# Altium footprint library QFP_Rect_100P_Side_M.PcbLib: 3 footprints
Each footprint in its own frame and in the unit in brackets; x right, y up, seen from the top. Pads: shape width x height; smd on the part's side, far side on the other; paste and mask are expansions set on the pad; w line width, h text height; cw(c..) or ccw(c..) is an arc to the next point about the centre after c.
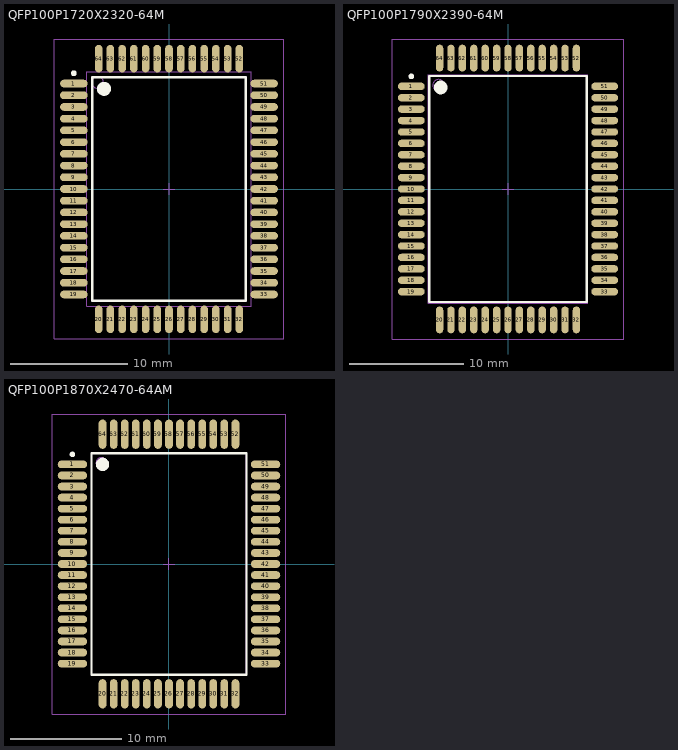
[diagram p0: the footprints below, top view; thin cyan lines are the x and y axes]

## QFP100P1720X2320-64M [mm]
pads (64):
  oval 2.35x0.65 smd: 1(-8.125,9) 2(-8.125,8) 3(-8.125,7) 4(-8.125,6) 5(-8.125,5) 6(-8.125,4) 7(-8.125,3) 8(-8.125,2) 9(-8.125,1) 10(-8.125,0) 11(-8.125,-1) 12(-8.125,-2) 13(-8.125,-3) 14(-8.125,-4) 15(-8.125,-5) 16(-8.125,-6) 17(-8.125,-7) 18(-8.125,-8) 19(-8.125,-9) 33(8.125,-9) 34(8.125,-8) 35(8.125,-7) 36(8.125,-6) 37(8.125,-5) 38(8.125,-4) 39(8.125,-3) 40(8.125,-2) 41(8.125,-1) 42(8.125,0) 43(8.125,1) 44(8.125,2) 45(8.125,3) 46(8.125,4) 47(8.125,5) 48(8.125,6) 49(8.125,7) 50(8.125,8) 51(8.125,9)
  oval 0.65x2.35 smd: 20(-6,-11.125) 21(-5,-11.125) 22(-4,-11.125) 23(-3,-11.125) 24(-2,-11.125) 25(-1,-11.125) 26(0,-11.125) 27(1,-11.125) 28(2,-11.125) 29(3,-11.125) 30(4,-11.125) 31(5,-11.125) 32(6,-11.125) 52(6,11.125) 53(5,11.125) 54(4,11.125) 55(3,11.125) 56(2,11.125) 57(1,11.125) 58(0,11.125) 59(-1,11.125) 60(-2,11.125) 61(-3,11.125) 62(-4,11.125) 63(-5,11.125) 64(-6,11.125)
Top Overlay:
  circle w0.6: c-5.55,8.55 r0.3
  circle w0.25: c-8.125,9.875 r0.125
  lines w0.2: -6.55,-9.55 6.55,-9.55 6.55,9.55 -6.55,9.55 -6.55,-9.55
Mechanical 13:
  circle w0.1: c-6.1,9.1 r0.5
  lines w0.1: -7,-10 7,-10 7,10 -7,10 -7,-10
Mechanical 15:
  lines w0.1: -0.5,0 0.5,0 ; 0,-0.5 0,0.5 ; -9.8,-12.8 9.8,-12.8 9.8,12.8 -9.8,12.8 -9.8,-12.8
3D body: height 0, standoff 0, extent -7,-10 7,10

## QFP100P1790X2390-64M [mm]
pads (64):
  oval 2.35x0.65 smd: 1(-8.475,9) 2(-8.475,8) 3(-8.475,7) 4(-8.475,6) 5(-8.475,5) 6(-8.475,4) 7(-8.475,3) 8(-8.475,2) 9(-8.475,1) 10(-8.475,0) 11(-8.475,-1) 12(-8.475,-2) 13(-8.475,-3) 14(-8.475,-4) 15(-8.475,-5) 16(-8.475,-6) 17(-8.475,-7) 18(-8.475,-8) 19(-8.475,-9) 33(8.475,-9) 34(8.475,-8) 35(8.475,-7) 36(8.475,-6) 37(8.475,-5) 38(8.475,-4) 39(8.475,-3) 40(8.475,-2) 41(8.475,-1) 42(8.475,0) 43(8.475,1) 44(8.475,2) 45(8.475,3) 46(8.475,4) 47(8.475,5) 48(8.475,6) 49(8.475,7) 50(8.475,8) 51(8.475,9)
  oval 0.65x2.35 smd: 20(-6,-11.475) 21(-5,-11.475) 22(-4,-11.475) 23(-3,-11.475) 24(-2,-11.475) 25(-1,-11.475) 26(0,-11.475) 27(1,-11.475) 28(2,-11.475) 29(3,-11.475) 30(4,-11.475) 31(5,-11.475) 32(6,-11.475) 52(6,11.475) 53(5,11.475) 54(4,11.475) 55(3,11.475) 56(2,11.475) 57(1,11.475) 58(0,11.475) 59(-1,11.475) 60(-2,11.475) 61(-3,11.475) 62(-4,11.475) 63(-5,11.475) 64(-6,11.475)
Top Overlay:
  circle w0.6: c-5.9,8.9 r0.3
  circle w0.25: c-8.475,9.875 r0.125
  lines w0.2: -6.9,-9.9 6.9,-9.9 6.9,9.9 -6.9,9.9 -6.9,-9.9
Mechanical 13:
  circle w0.1: c-6.1,9.1 r0.5
  lines w0.1: -7,-10 7,-10 7,10 -7,10 -7,-10
Mechanical 15:
  lines w0.1: -0.5,0 0.5,0 ; 0,-0.5 0,0.5 ; -10.15,-13.15 10.15,-13.15 10.15,13.15 -10.15,13.15 -10.15,-13.15
3D body: height 0, standoff 0, extent -7,-10 7,10

## QFP100P1870X2470-64AM [mm] "QFP, 64-Leads, Body 20x14mm, Pitch 1mm, IPC Low Density"
height 2.3
pads (64):
  oval 2.65x0.7 smd: 1(-8.725,9) 2(-8.725,8) 3(-8.725,7) 4(-8.725,6) 5(-8.725,5) 6(-8.725,4) 7(-8.725,3) 8(-8.725,2) 9(-8.725,1) 10(-8.725,0) 11(-8.725,-1) 12(-8.725,-2) 13(-8.725,-3) 14(-8.725,-4) 15(-8.725,-5) 16(-8.725,-6) 17(-8.725,-7) 18(-8.725,-8) 19(-8.725,-9) 33(8.725,-9) 34(8.725,-8) 35(8.725,-7) 36(8.725,-6) 37(8.725,-5) 38(8.725,-4) 39(8.725,-3) 40(8.725,-2) 41(8.725,-1) 42(8.725,0) 43(8.725,1) 44(8.725,2) 45(8.725,3) 46(8.725,4) 47(8.725,5) 48(8.725,6) 49(8.725,7) 50(8.725,8) 51(8.725,9)
  oval 0.7x2.65 smd: 20(-6,-11.725) 21(-5,-11.725) 22(-4,-11.725) 23(-3,-11.725) 24(-2,-11.725) 25(-1,-11.725) 26(0,-11.725) 27(1,-11.725) 28(2,-11.725) 29(3,-11.725) 30(4,-11.725) 31(5,-11.725) 32(6,-11.725) 52(6,11.725) 53(5,11.725) 54(4,11.725) 55(3,11.725) 56(2,11.725) 57(1,11.725) 58(0,11.725) 59(-1,11.725) 60(-2,11.725) 61(-3,11.725) 62(-4,11.725) 63(-5,11.725) 64(-6,11.725)
Top Overlay:
  circle w0.25: c-8.725,9.9 r0.125
  circle w0.6: c-6,9 r0.3
  lines w0.2: -7,-10 -7,10 7,10 7,-10 -7,-10
Mechanical 13:
  circle w0.1: c-6.1,9.1 r0.5
  lines w0.1: -7,-10 -7,10 7,10 7,-10 -7,-10
Mechanical 15:
  lines w0.1: -0.5,0 0.5,0 ; 0,-0.5 0,0.5 ; -10.55,-13.55 -10.55,13.55 10.55,13.55 10.55,-13.55 -10.55,-13.55
3D body: height 2.3, standoff 0, extent -7,-10 7,10